# Altium schematic symbol library 74754-0220.SchLib: 1 symbol
Pins are listed as number, name and electrical type; pins without a type are passive.

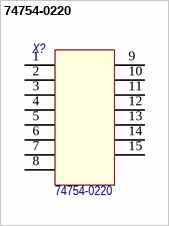
[diagram p0: symbol 74754-0220]

## 74754-0220
designator X?
1x2 SFP+ cage press-fit; Потребление, Вт: 0; Назначение: 1x2 SFP+ cage press-fit; Наименование: 74754-0220
footprint 74754-0220 (1x2 SFP press-fit cage)
pins: 1, 2, 3, 4, 5, 6, 7, 8, 9, 10, 11, 12, 13, 14, 15